# Altium schematic symbol library Schlib1.SchLib: 4 symbols
Pins are listed as number, name and electrical type; pins without a type are passive.

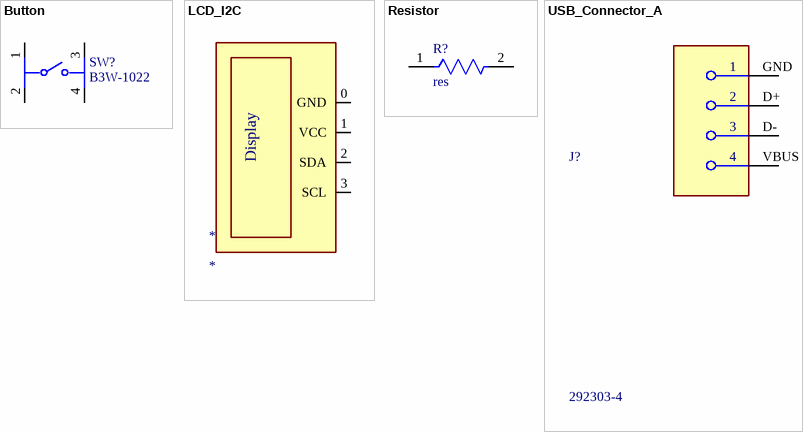
[diagram p0: symbols Button to USB_Connector_A]

## Button
designator SW?, comment B3W-1022
SWITCH TACTILE SPST-NO 0.05A 24V; Operating Force: 230gf; Switch Function: Off-Mom; Switch Travel: 0.25mm; Throw Configuration: SPST; Actuator Type: Standard; Illumination Type: Non-Illuminated; Ratings: IP67; Mechanical Life: 1000000Cycles; Packaging: Bulk; Termination: PC Pin; Max Operating Temperature: 70°C; RoHS Compliant: Yes; Mount: Through Hole; Min Operating Temperature: -25°C
footprint FP-B3W-1022-MFG
pins: 1, 2, 3, 4

## LCD_I2C
designator *
Grove-16x2 LCD; Value: *; HelpURL: *; MPN: *
pins: 0 GND, 1 VCC, 2 SDA, 3 SCL
text: Display

## Resistor
designator R?, comment res
RES 1.2M OHM 5% 1/2W AXIAL; Voltage Rating: 3.5kV; Power Rating: 500mW; Temperature Coefficient: 200ppm/°C; Resistance: 1.2MR; Diameter: 4mm; Max Operating Temperature: 155°C; Military Standard: Not; Reach SVHC Compliant: Yes; Min Operating Temperature: -55°C; Resistance Tolerance: 5%; Resistor Type: Metal Film; Tolerance: 5%; Mount: Through Hole; Construction: Cylindrical; Contact Plating: Tin; Length: 10mm; Termination: Axial; Voltage Rating (DC): 3.5kV; Packaging: Ammo Pack; Radiation Hardening: No; Case/Package: Conformal
footprint FP-VR37-MFG
pins: 1, 2

## USB_Connector_A
designator J?, comment 292303-4
CONN RCPT USB2.0 TYPEA 4POS R/A; Manufacturer: TE Connectivity; Number Of Contacts: 4; Shielding: true; Current Rating: 1A; Conn Orientation: Right Angle; Voltage Rating: 30V; Is Female: yes; ComponentLink2URL: https://www.te.com/usa-en/product-292303-4.html?te_bu=Cor&te_type=other&te_campaign=oct_glo_cor-oct-global-oth-prtnr-fy19-oct-octo-buy-bom_sma-298_2&elqCampaignId=35216; Category: Conn; Device Class L2: USB Connectors; Usb Standard: USB 2.0; ComponentLink2Description: Datasheet; Package: 292303-4; Temperature Range Low: -55°C; Temperature: -55°C to +85°C; Digikey Description: CONN RCPT USB2.0 TYPEA 4POS R/A; Octopart: https://octopart.com/292303-4-te+connectivity-39545343; Automotive: No; Mouser Description: Modular Connectors / Ethernet Connectors USB A R/A RCPT T/H; Contact Material: Gold,Nickel; Manufacturer Part Number: 292303-4; Device Class L1: Connectors; Device Class L3: unset; Temperature Range High: +85°C; Lead Free: Yes; RoHS: TRUE
footprint FP-292303-4-MFG
pins: D+ 2, D- 3, GND 1, VBUS 4